# Altium footprint library Microphone_array.PcbLib: 29 footprints (part 1 of 2)
Each footprint in its own frame and in the unit in brackets; x right, y up, seen from the top. Pads: shape width x height; smd on the part's side, far side on the other; paste and mask are expansions set on the pad; w line width, h text height; cw(c..) or ccw(c..) is an arc to the next point about the centre after c.
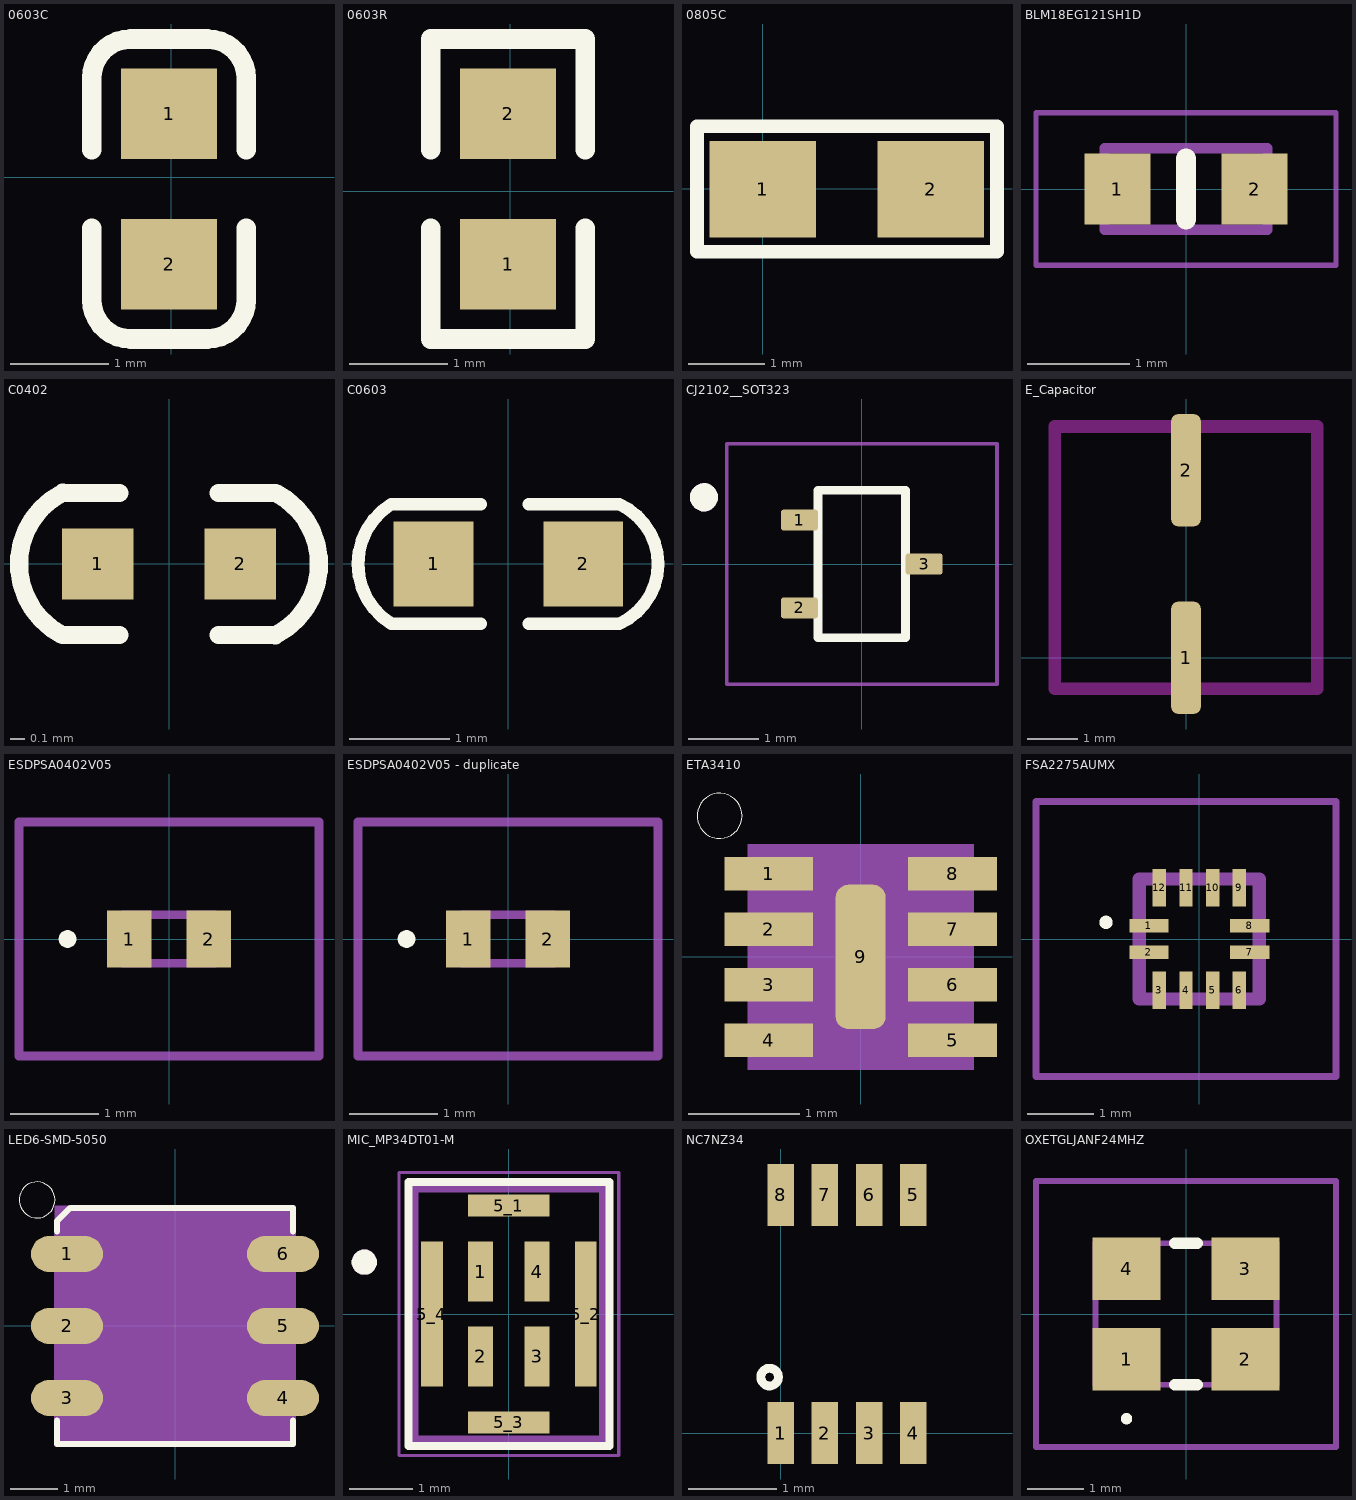
[diagram p0: the footprints below, top view; thin cyan lines are the x and y axes]

## 0603C [mm]
pads (2):
  rect 0.98x0.93 smd: 1(-0.022,0.651) 2(-0.022,-0.889)
Top Overlay:
  lines w0.2: -0.812,-0.519 -0.812,-1.254 ccw(c-0.412,-1.254) -0.412,-1.654 0.368,-1.654 ccw(c0.368,-1.254) 0.768,-1.254 0.768,-0.519 ; -0.812,0.281 -0.812,1.016 cw(c-0.412,1.016) -0.412,1.416 0.368,1.416 cw(c0.368,1.016) 0.768,1.016 0.768,0.281
3D body "User Library-0603 SMD Capacitor.STEP": height 0.3, standoff 0, extent -0.422,-0.919 0.378,0.681

## 0603R [mm]
pads (2):
  rect 0.98x0.93 smd: 1(-0.025,-0.744) 2(-0.025,0.796)
Top Overlay:
  lines w0.2: -0.815,-0.374 -0.815,-1.509 0.765,-1.509 0.765,-0.374 ; -0.815,0.426 -0.815,1.561 0.765,1.561 0.765,0.426
3D body "User Library-RES_1609-0603.STEP": height 0.56, standoff 0, extent -0.426,-0.824 0.374,0.876

## 0805C [mm]
pads (2):
  rect 1.4x1.27 smd: 1(-0.001,-0.007) 2(2.209,-0.007)
Top Overlay:
  lines w0.178: -0.864,-0.83 3.078,-0.83 3.078,0.82 -0.864,0.82 -0.864,-0.83
3D body "User Library-cap0805.STEP": height 0.93, standoff -0.01, extent -0.409,-0.667 2.591,0.733
3D body "SW3DPS-CAPACITOR 0805-DEFAULT.STEP": height 0.65, standoff -0.65, extent 0.016,-0.03 2.016,0.73

## BLM18EG121SH1D [mm]
pads (2):
  rect 0.65x0.7 smd: 1(-0.675,0) 2(0.675,0)
Top Overlay:
  lines w0.2: 0,-0.3 0,0.3
Mechanical 15:
  lines w0.1: -0.8,-0.4 -0.8,0.4 0.8,0.4 0.8,-0.4 -0.8,-0.4
Mechanical 20:
  lines w0.05: -1.475,-0.75 -1.475,0.75 1.475,0.75 1.475,-0.75 -1.475,-0.75

## C0402 [mm]
pads (2):
  rect 0.5x0.5 smd: 1(-0.5,0) 2(0.5,0)
Top Overlay:
  lines w0.127: -0.747,-0.5 -0.347,-0.5 ; -0.747,-0.5 cw(c-0.493,0) -0.746,0.5 -0.347,0.5 ; 0.347,-0.5 0.747,-0.5 ccw(c0.493,0) 0.747,0.5 ; 0.347,0.5 0.747,0.5
3D body "0402 SMD Capacitor.STEP": height 0.2, standoff 0, extent -0.5,-0.3 0.5,0.3

## C0603 [mm]
pads (2):
  rect 0.8x0.85 smd: 1(-0.75,0) 2(0.75,0)
Top Overlay:
  lines w0.127: -1.174,0.6 -0.279,0.6 ; -1.173,0.6 ccw(c-0.801,0) -1.174,-0.6 -0.279,-0.6 ; 0.203,-0.6 1.11,-0.6 ccw(c0.844,0) 1.11,0.6 0.203,0.6
3D body "0603 SMD Capacitor.STEP": height 0.3, standoff 0, extent -0.8,-0.4 0.8,0.4

## CJ2102__SOT323 [mm]
pads (3):
  rrect25% 0.525x0.3 smd: 1(-0.887,0.625) 2(-0.887,-0.625) 3(0.887,0)
Top Overlay:
  circle w0.2: c-2.246,0.95 r0.1
  lines w0.127: -0.625,-1.05 -0.625,1.05 0.625,1.05 0.625,-1.05 -0.625,-1.05
Mechanical 13:
  circle w0.2: c-2.246,0.95 r0.1
Mechanical 15:
  lines w0.05: -1.925,-1.71 1.925,-1.71 1.925,1.71 -1.925,1.71 -1.925,-1.71

## E_Capacitor [mm]
pads (2):
  rrect50% 0.6x2.25 smd: 1(0,0) 2(0,3.75)
Keep-Out Layer:
  lines w0.254: -2.623,-0.623 2.623,-0.623 2.623,4.623 -2.623,4.623 -2.623,-0.623

## ESDPSA0402V05 [mm]
pads (2):
  rect 0.5x0.65 smd: 1(-0.45,0) 2(0.45,0)
Top Overlay:
  lines w0.1: -1.2,0 ccw(c-1.15,0) -1.1,0 ccw(c-1.15,0) -1.2,0
Mechanical 15:
  lines w0.1: -0.525,-0.275 0.525,-0.275 0.525,0.275 -0.525,0.275 -0.525,-0.275
Mechanical 20:
  lines w0.1: -1.7,-1.325 1.7,-1.325 1.7,1.325 -1.7,1.325 -1.7,-1.325

## ESDPSA0402V05 - duplicate [mm]
pads (2):
  rect 0.5x0.65 smd: 1(-0.45,0) 2(0.45,0)
Top Overlay:
  lines w0.1: -1.2,0 ccw(c-1.15,0) -1.1,0 ccw(c-1.15,0) -1.2,0
Mechanical 15:
  lines w0.1: -0.525,-0.275 0.525,-0.275 0.525,0.275 -0.525,0.275 -0.525,-0.275
Mechanical 20:
  lines w0.1: -1.7,-1.325 1.7,-1.325 1.7,1.325 -1.7,1.325 -1.7,-1.325

## ETA3410 [mm]
pads (9):
  rect 0.8x0.3 smd: 1(-0.827,0.75) 2(-0.827,0.25) 3(-0.827,-0.25) 4(-0.827,-0.75) 5(0.827,-0.75) 6(0.827,-0.25) 7(0.827,0.25) 8(0.827,0.75)
  rrect50% 0.45x1.3 smd: 9(0,0)
Top Overlay:
  circle w0: c-1.27,1.27 r0.203
Mechanical 15:
  region: 1.016,-1.017 -1.017,-1.017 -1.017,1.016 1.016,1.016

## FSA2275AUMX [mm]
pads (12):
  rect 0.588x0.2 smd: 1(-0.756,0.2) 2(-0.756,-0.2) 7(0.756,-0.2) 8(0.756,0.2)
  rect 0.2x0.563 smd: 3(-0.6,-0.769) 4(-0.2,-0.769) 5(0.2,-0.769) 6(0.6,-0.769) 9(0.6,0.769) 10(0.2,0.769) 11(-0.2,0.769) 12(-0.6,0.769)
Top Overlay:
  lines w0.1: -1.4,0.2 cw(c-1.4,0.25) -1.4,0.3 cw(c-1.4,0.25) -1.4,0.2
Mechanical 15:
  lines w0.2: -0.9,-0.9 -0.9,0.9 0.9,0.9 0.9,-0.9 -0.9,-0.9
Mechanical 20:
  lines w0.1: -2.45,-2.063 -2.45,2.063 2.05,2.063 2.05,-2.063 -2.45,-2.063

## LED6-SMD-5050 [mil]
pads (6):
  oval 60x30 smd: 1(-90,60) 2(-90,0) 3(-90,-60) 4(90,-60) 5(90,0) 6(90,60)
Top Overlay:
  circle w0: c-115,105 r15
  lines w5: -98.43,-78.74 -98.43,-98.43 98.43,-98.43 98.43,-78.74 ; -98.43,78.74 -98.43,87.29 -87.29,98.43 98.43,98.43 98.43,78.74
Mechanical 13:
  lines w5: -98.43,-98.43 -98.43,75.63 -75.63,98.43 ; 98.43,-98.43 98.43,98.43
Mechanical 15:
  region: 100,-100.14 -100.14,-100.14 -100.14,100 100,100

## MIC_MP34DT01-M [mm]
pads (8):
  rect 0.4x0.95 smd: 1(-0.45,0.675) 2(-0.45,-0.675) 3(0.45,-0.675) 4(0.45,0.675)
  rect 1.3x0.35 smd: 5_1(0,1.725) 5_3(0,-1.725)
  rect 0.35x2.3 smd: 5_2(1.225,0) 5_4(-1.225,0)
Top Overlay:
  circle w0.2: c-2.3,0.825 r0.1
  lines w0.127: -1.6,-2.1 -1.6,2.1 1.6,2.1 1.6,-2.1 -1.6,-2.1
Mechanical 13:
  circle w0.2: c-2.3,0.825 r0.1
  lines w0.127: -1.5,-2 -1.5,2 1.5,2 1.5,-2 -1.5,-2
Mechanical 15:
  lines w0.05: -1.75,-2.25 -1.75,2.25 1.75,2.25 1.75,-2.25 -1.75,-2.25

## NC7NZ34 [mm]
pads (8):
  rect 0.3x0.7 smd: 1(0,0) 2(0.5,0) 3(1,0) 4(1.5,0) 5(1.5,2.7) 6(1,2.7) 7(0.5,2.7) 8(0,2.7)
Top Overlay:
  circle w0.1: c-0.127,0.635 r0.1

## OXETGLJANF24MHZ [mm]
pads (4):
  rect 1.2x1.1 smd: 1(-1.05,-0.8) 2(1.05,-0.8) 3(1.05,0.8) 4(-1.05,0.8)
Top Overlay:
  lines w0.1: -1.05,-1.9 cw(c-1.05,-1.85) -1.05,-1.8 cw(c-1.05,-1.85) -1.05,-1.9
  lines w0.2: -0.2,-1.25 0.2,-1.25 ; -0.2,1.25 0.2,1.25
Mechanical 15:
  lines w0.1: -1.6,-1.25 1.6,-1.25 1.6,1.25 -1.6,1.25 -1.6,-1.25
Mechanical 20:
  lines w0.1: -2.65,-2.35 2.65,-2.35 2.65,2.35 -2.65,2.35 -2.65,-2.35